# EAGLE library part TPS62743YFPR (library TPS62743YFPR)
Conv DC-DC Single Step Down 2.15V to 5.5V 8-Pin DSBGA T/R
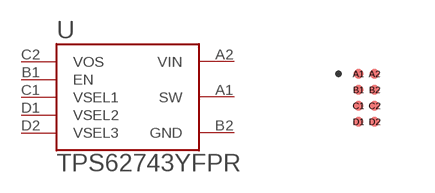
[diagram p0: symbol with the pads of BGA8N40P2X4_87X156X50; footprint BGA8N40P2X4_87X156X50]

Designator prefix U

## TPS62743YFPR (Description: Buck Switching Regulator IC Positive Programmable 1.2V 1 Output 300mA 8-XFBGA, DSBGA; Digi-Key_Part_Number: 296-42392-1-ND; DigiKey-Purchase-URL: https://snapeda.com/shop?store=DigiKey&id=485129; MF: Texas Instruments; MP: TPS62743YFPR; Package: DSBGA-8 Texas Instruments)  [BGA8N40P2X4_87X156X50]
A1  SW  out
A2  VIN  pwr
B1  EN  in
B2  GND  pas
C1  VSEL1  in
C2  VOS  in
D1  VSEL2  in
D2  VSEL3  in

## Footprint BGA8N40P2X4_87X156X50 (pad centres in mm)
smd 0.25 x 0.25: A1 -0.2,0.6; A2 0.2,0.6; B1 -0.2,0.2; B2 0.2,0.2; C1 -0.2,-0.2; C2 0.2,-0.2; D1 -0.2,-0.6; D2 0.2,-0.6